# Altium footprint library MPL3115A2.PcbLib: 1 footprints
Each footprint in its own frame and in the unit in brackets; x right, y up, seen from the top. Pads: shape width x height; smd on the part's side, far side on the other; paste and mask are expansions set on the pad; w line width, h text height; cw(c..) or ccw(c..) is an arc to the next point about the centre after c.
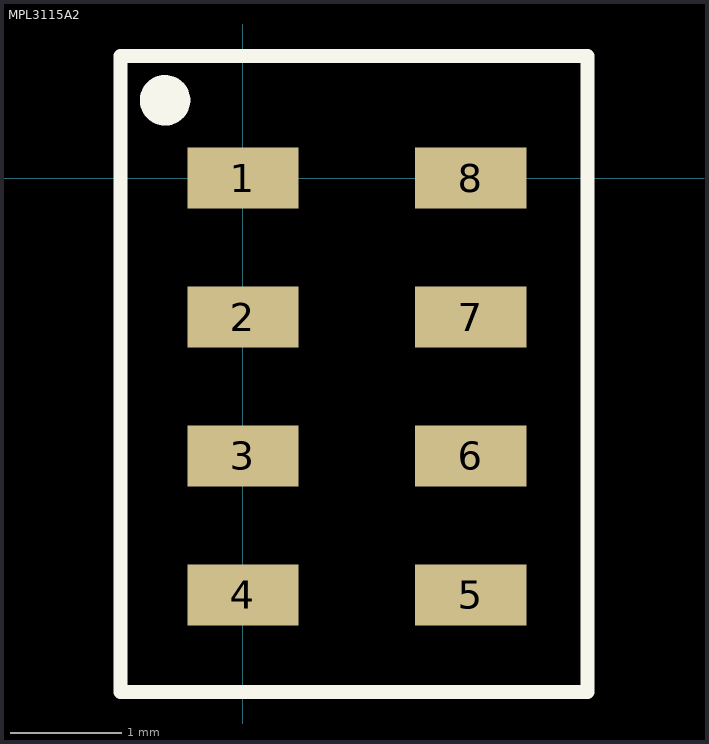
[diagram p0: the footprint, top view; thin cyan lines are the x and y axes]

## MPL3115A2 [mm]
height 1.2
pads (8):
  rect 1x0.55 smd: 1(0,0) 2(0,-1.25) 3(0,-2.5) 4(0,-3.75) 5(2.05,-3.75) 6(2.05,-2.5) 7(2.05,-1.25) 8(2.05,0)
Top Overlay:
  circle w0.254: c-0.7,0.7 r0.1
  lines w0.127: -1.1,-4.625 -1.1,1.1 3.1,1.1 3.1,-4.625 -1.1,-4.625
3D body: height 1.2, standoff 0, extent -0.475,-4.375 2.525,0.625